# Altium integrated library Digital IC Library.IntLib: 11 symbols
Pins are listed as number, name and electrical type; pins without a type are passive.

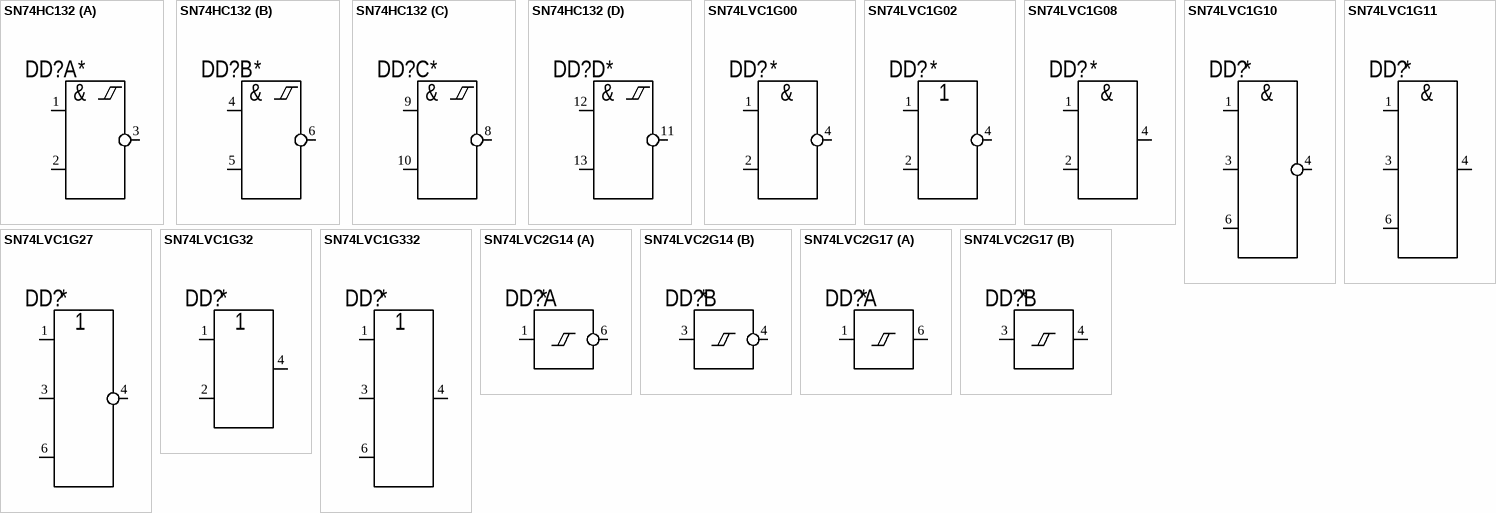
[diagram p0: symbols SN74HC132 to SN74LVC2G17]

## SN74HC132
designator DD?
Model: *
pins on every part: 7 GND hidden to GND, 14 Vcc hidden to Vcc
part A pins: 1 1A, 2 1B, 3 1Y
part B pins: 4 2A, 5 2B, 6 2Y
part C pins: 8 3Y, 9 3A, 10 3B
part D pins: 11 4Y, 12 4A, 13 4B
part A text: &
part B text: &
part C text: &
part D text: &

## SN74LVC1G00
designator DD?
Model: *
pins: 1 "A", 2 "B", 3 GND (power) hidden to GND, 4 "Y", 5 Vcc hidden to Vcc
text: &

## SN74LVC1G02
designator DD?
Model: *
pins: 1 "A", 2 "B", 3 GND (power) hidden to GND, 4 "Y", 5 Vcc (power) hidden to Vcc

## SN74LVC1G08
designator DD?
Model: *
pins: 1 "A", 2 "B", 3 GND (power) hidden to GND, 4 "Y", 5 Vcc (power) hidden to Vcc
text: &

## SN74LVC1G10
designator DD?
Model: *
pins: 1 "A", 2 GND (power) hidden to GND, 3 "B", 4 "Y", 5 Vcc (power) hidden to Vcc, 6 "C"
text: &

## SN74LVC1G11
designator DD?
Model: *
pins: 1 "A", 2 GND (power) hidden to GND, 3 "B", 4 "Y", 5 Vcc (power) hidden to Vcc, 6 "C"
text: &

## SN74LVC1G27
designator DD?
Model: *
pins: 1 "A", 2 GND (power) hidden to GND, 3 "C", 4 "Y", 5 Vcc (power) hidden to Vcc, 6 "C"

## SN74LVC1G32
designator DD?
Model: *
pins: 1 "A", 2 "B", 3 GND (power) hidden to GND, 4 "Y", 5 Vcc (power) hidden to Vcc

## SN74LVC1G332
designator DD?
Model: *
pins: 1 "A", 2 GND (power) hidden to GND, 3 "B", 4 "Y", 5 Vcc (power) hidden to Vcc, 6 "C"

## SN74LVC2G14
designator DD?
Model: *
pins on every part: 2 GND (power) hidden to GND, 5 Vcc (power) hidden to Vcc
part A pins: 1, 6
part B pins: 3, 4

## SN74LVC2G17
designator DD?
Model: *
pins on every part: 2 GND (power) hidden to GND, 5 (power) hidden to Vcc "Vcc"
part A pins: 1, 6
part B pins: 3, 4